# Altium schematic symbol library 686 1xx 144 22.SchLib: 16 symbols
Pins are listed as number, name and electrical type; pins without a type are passive.

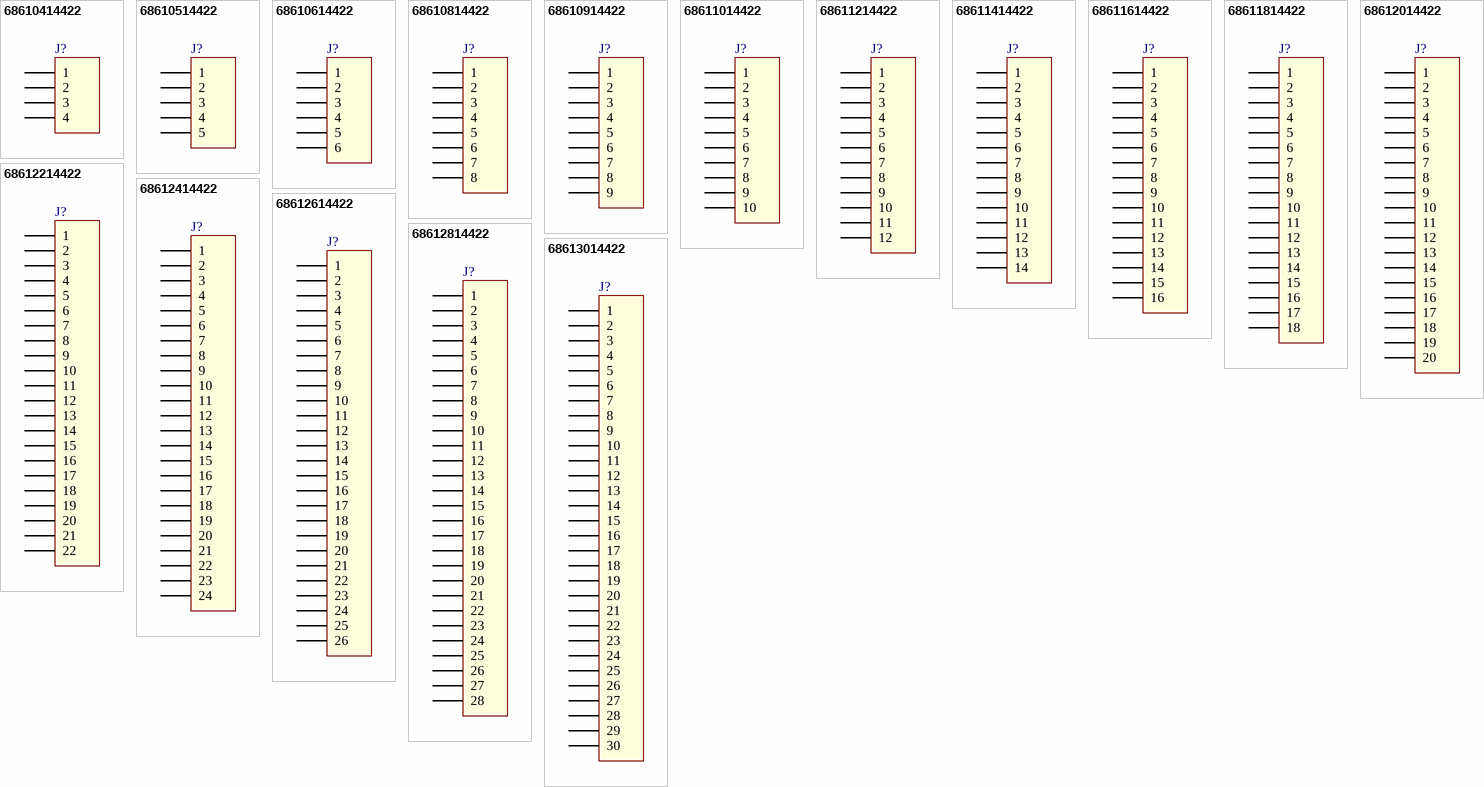
[diagram p0: symbols 68610414422 to 68613014422]

## 68610414422
designator J?
1.00 mm SMT ZIF Horizontal Bottom Contact WR-FPC, 4 pins; Part Number: 68610414422; Pitch: 1 mm; Pin Number: 4; ComponentLink1Description: Manufacturer; ComponentLink1URL: http://www.we-online.de; ComponentLink2Description: Datasheet; ComponentLink2URL: http://katalog.we-online.com/em/datasheet/6861xx14422.pdf; Published Date: April 2017; Publisher: Wurth Elektronik
footprint 68610414422 (1.00 mm SMT ZIF Horizontal Bottom Contact, 4p)
pins: 1, 2, 3, 4

## 68610514422
designator J?
1.00 mm SMT ZIF Horizontal Bottom Contact WR-FPC, 5 pins; Part Number: 68610514422; Pitch: 1 mm; Pin Number: 5; ComponentLink1Description: Manufacturer; ComponentLink1URL: http://www.we-online.de; ComponentLink2Description: Datasheet; ComponentLink2URL: http://katalog.we-online.com/em/datasheet/6861xx14422.pdf; Published Date: April 2017; Publisher: Wurth Elektronik
footprint 68610514422 (1.00 mm SMT ZIF Horizontal Bottom Contact, 5p)
pins: 1, 2, 3, 4, 5

## 68610614422
designator J?
1.00 mm SMT ZIF Horizontal Bottom Contact WR-FPC, 6 pins; Part Number: 68610614422; Pitch: 1 mm; Pin Number: 6; ComponentLink1Description: Manufacturer; ComponentLink1URL: http://www.we-online.de; ComponentLink2Description: Datasheet; ComponentLink2URL: http://katalog.we-online.com/em/datasheet/6861xx14422.pdf; Published Date: April 2017; Publisher: Wurth Elektronik
footprint 68610614422 (1.00 mm SMT ZIF Horizontal Bottom Contact, 6p)
pins: 1, 2, 3, 4, 5, 6

## 68610814422
designator J?
1.00 mm SMT ZIF Horizontal Bottom Contact WR-FPC, 8 pins; Part Number: 68610814422; Pitch: 1 mm; Pin Number: 8; ComponentLink1Description: Manufacturer; ComponentLink1URL: http://www.we-online.de; ComponentLink2Description: Datasheet; ComponentLink2URL: http://katalog.we-online.com/em/datasheet/6861xx14422.pdf; Published Date: April 2017; Publisher: Wurth Elektronik
footprint 68610814422 (1.00 mm SMT ZIF Horizontal Bottom Contact, 8p)
pins: 1, 2, 3, 4, 5, 6, 7, 8

## 68610914422
designator J?
1.00 mm SMT ZIF Horizontal Bottom Contact WR-FPC, 9 pins; Part Number: 68610914422; Pitch: 1 mm; Pin Number: 9; ComponentLink1Description: Manufacturer; ComponentLink1URL: http://www.we-online.de; ComponentLink2Description: Datasheet; ComponentLink2URL: http://katalog.we-online.com/em/datasheet/6861xx14422.pdf; Published Date: April 2017; Publisher: Wurth Elektronik
footprint 68610914422 (1.00 mm SMT ZIF Horizontal Bottom Contact, 9p)
pins: 1, 2, 3, 4, 5, 6, 7, 8, 9

## 68611014422
designator J?
1.00 mm SMT ZIF Horizontal Bottom Contact WR-FPC, 10 pins; Part Number: 68611014422; Pitch: 1 mm; Pin Number: 10; ComponentLink1Description: Manufacturer; ComponentLink1URL: http://www.we-online.de; ComponentLink2Description: Datasheet; ComponentLink2URL: http://katalog.we-online.com/em/datasheet/6861xx14422.pdf; Published Date: April 2017; Publisher: Wurth Elektronik
footprint 68611014422 (1.00 mm SMT ZIF Horizontal Bottom Contact, 10p)
pins: 1, 2, 3, 4, 5, 6, 7, 8, 9, 10

## 68611214422
designator J?
1.00 mm SMT ZIF Horizontal Bottom Contact WR-FPC, 12 pins; Part Number: 68611214422; Pitch: 1 mm; Pin Number: 12; ComponentLink1Description: Manufacturer; ComponentLink1URL: http://www.we-online.de; ComponentLink2Description: Datasheet; ComponentLink2URL: http://katalog.we-online.com/em/datasheet/6861xx14422.pdf; Published Date: April 2017; Publisher: Wurth Elektronik
footprint 68611214422 (1.00 mm SMT ZIF Horizontal Bottom Contact, 12p)
pins: 1, 2, 3, 4, 5, 6, 7, 8, 9, 10, 11, 12

## 68611414422
designator J?
1.00 mm SMT ZIF Horizontal Bottom Contact WR-FPC, 14 pins; Part Number: 68611414422; Pitch: 1 mm; Pin Number: 14; ComponentLink1Description: Manufacturer; ComponentLink1URL: http://www.we-online.de; ComponentLink2Description: Datasheet; ComponentLink2URL: http://katalog.we-online.com/em/datasheet/6861xx14422.pdf; Published Date: April 2017; Publisher: Wurth Elektronik
footprint 68611414422 (1.00 mm SMT ZIF Horizontal Bottom Contact, 14p)
pins: 1, 2, 3, 4, 5, 6, 7, 8, 9, 10, 11, 12, 13, 14

## 68611614422
designator J?
1.00 mm SMT ZIF Horizontal Bottom Contact WR-FPC, 16 pins; Part Number: 68611614422; Pitch: 1 mm; Pin Number: 16; ComponentLink1Description: Manufacturer; ComponentLink1URL: http://www.we-online.de; ComponentLink2Description: Datasheet; ComponentLink2URL: http://katalog.we-online.com/em/datasheet/6861xx14422.pdf; Published Date: April 2017; Publisher: Wurth Elektronik
footprint 68611614422 (1.00 mm SMT ZIF Horizontal Bottom Contact, 16p)
pins: 1, 2, 3, 4, 5, 6, 7, 8, 9, 10, 11, 12, 13, 14, 15, 16

## 68611814422
designator J?
1.00 mm SMT ZIF Horizontal Bottom Contact WR-FPC, 18 pins; Part Number: 68611814422; Pitch: 1 mm; Pin Number: 18; ComponentLink1Description: Manufacturer; ComponentLink1URL: http://www.we-online.de; ComponentLink2Description: Datasheet; ComponentLink2URL: http://katalog.we-online.com/em/datasheet/6861xx14422.pdf; Published Date: April 2017; Publisher: Wurth Elektronik
footprint 68611814422 (1.00 mm SMT ZIF Horizontal Bottom Contact, 18p)
pins: 1, 2, 3, 4, 5, 6, 7, 8, 9, 10, 11, 12, 13, 14, 15, 16, 17, 18

## 68612014422
designator J?
1.00 mm SMT ZIF Horizontal Bottom Contact WR-FPC, 20 pins; Part Number: 68612014422; Pitch: 1 mm; Pin Number: 20; ComponentLink1Description: Manufacturer; ComponentLink1URL: http://www.we-online.de; ComponentLink2Description: Datasheet; ComponentLink2URL: http://katalog.we-online.com/em/datasheet/6861xx14422.pdf; Published Date: April 2017; Publisher: Wurth Elektronik
footprint 68612014422 (1.00 mm SMT ZIF Horizontal Bottom Contact, 20p)
pins: 1, 2, 3, 4, 5, 6, 7, 8, 9, 10, 11, 12, 13, 14, 15, 16, 17, 18, 19, 20

## 68612214422
designator J?
1.00 mm SMT ZIF Horizontal Bottom Contact WR-FPC, 22 pins; Part Number: 68612214422; Pitch: 1 mm; Pin Number: 22; ComponentLink1Description: Manufacturer; ComponentLink1URL: http://www.we-online.de; ComponentLink2Description: Datasheet; ComponentLink2URL: http://katalog.we-online.com/em/datasheet/6861xx14422.pdf; Published Date: April 2017; Publisher: Wurth Elektronik
footprint 68612214422 (1.00 mm SMT ZIF Horizontal Bottom Contact, 22p)
pins: 1, 2, 3, 4, 5, 6, 7, 8, 9, 10, 11, 12, 13, 14, 15, 16, 17, 18, 19, 20, 21, 22

## 68612414422
designator J?
1.00 mm SMT ZIF Horizontal Bottom Contact WR-FPC, 24 pins; Part Number: 68612414422; Pitch: 1 mm; Pin Number: 24; ComponentLink1Description: Manufacturer; ComponentLink1URL: http://www.we-online.de; ComponentLink2Description: Datasheet; ComponentLink2URL: http://katalog.we-online.com/em/datasheet/6861xx14422.pdf; Published Date: April 2017; Publisher: Wurth Elektronik
footprint 68612414422 (1.00 mm SMT ZIF Horizontal Bottom Contact, 24p)
pins: 1, 2, 3, 4, 5, 6, 7, 8, 9, 10, 11, 12, 13, 14, 15, 16, 17, 18, 19, 20, 21, 22, 23, 24

## 68612614422
designator J?
1.00 mm SMT ZIF Horizontal Bottom Contact WR-FPC, 26 pins; Part Number: 68612614422; Pitch: 1 mm; Pin Number: 26; ComponentLink1Description: Manufacturer; ComponentLink1URL: http://www.we-online.de; ComponentLink2Description: Datasheet; ComponentLink2URL: http://katalog.we-online.com/em/datasheet/6861xx14422.pdf; Published Date: April 2017; Publisher: Wurth Elektronik
footprint 68612614422 (1.00 mm SMT ZIF Horizontal Bottom Contact, 26p)
pins: 1, 2, 3, 4, 5, 6, 7, 8, 9, 10, 11, 12, 13, 14, 15, 16, 17, 18, 19, 20, 21, 22, 23, 24, 25, 26

## 68612814422
designator J?
1.00 mm SMT ZIF Horizontal Bottom Contact WR-FPC, 28 pins; Part Number: 68612814422; Pitch: 1 mm; Pin Number: 28; ComponentLink1Description: Manufacturer; ComponentLink1URL: http://www.we-online.de; ComponentLink2Description: Datasheet; ComponentLink2URL: http://katalog.we-online.com/em/datasheet/6861xx14422.pdf; Published Date: April 2017; Publisher: Wurth Elektronik
footprint 68612814422 (1.00 mm SMT ZIF Horizontal Bottom Contact, 28p)
pins: 1, 2, 3, 4, 5, 6, 7, 8, 9, 10, 11, 12, 13, 14, 15, 16, 17, 18, 19, 20, 21, 22, 23, 24, 25, 26, 27, 28

## 68613014422
designator J?
1.00 mm SMT ZIF Horizontal Bottom Contact WR-FPC, 30 pins; Part Number: 68613014422; Pitch: 1 mm; Pin Number: 30; ComponentLink1Description: Manufacturer; ComponentLink1URL: http://www.we-online.de; ComponentLink2Description: Datasheet; ComponentLink2URL: http://katalog.we-online.com/em/datasheet/6861xx14422.pdf; Published Date: April 2017; Publisher: Wurth Elektronik
footprint 68613014422 (1.00 mm SMT ZIF Horizontal Bottom Contact, 30p)
pins: 1, 2, 3, 4, 5, 6, 7, 8, 9, 10, 11, 12, 13, 14, 15, 16, 17, 18, 19, 20, 21, 22, 23, 24, 25, 26, 27, 28, 29, 30